# Altium integrated library Analog_Devices_Power_Management_Linear_Regulators.IntLib: 441 symbols (part 6 of 23)
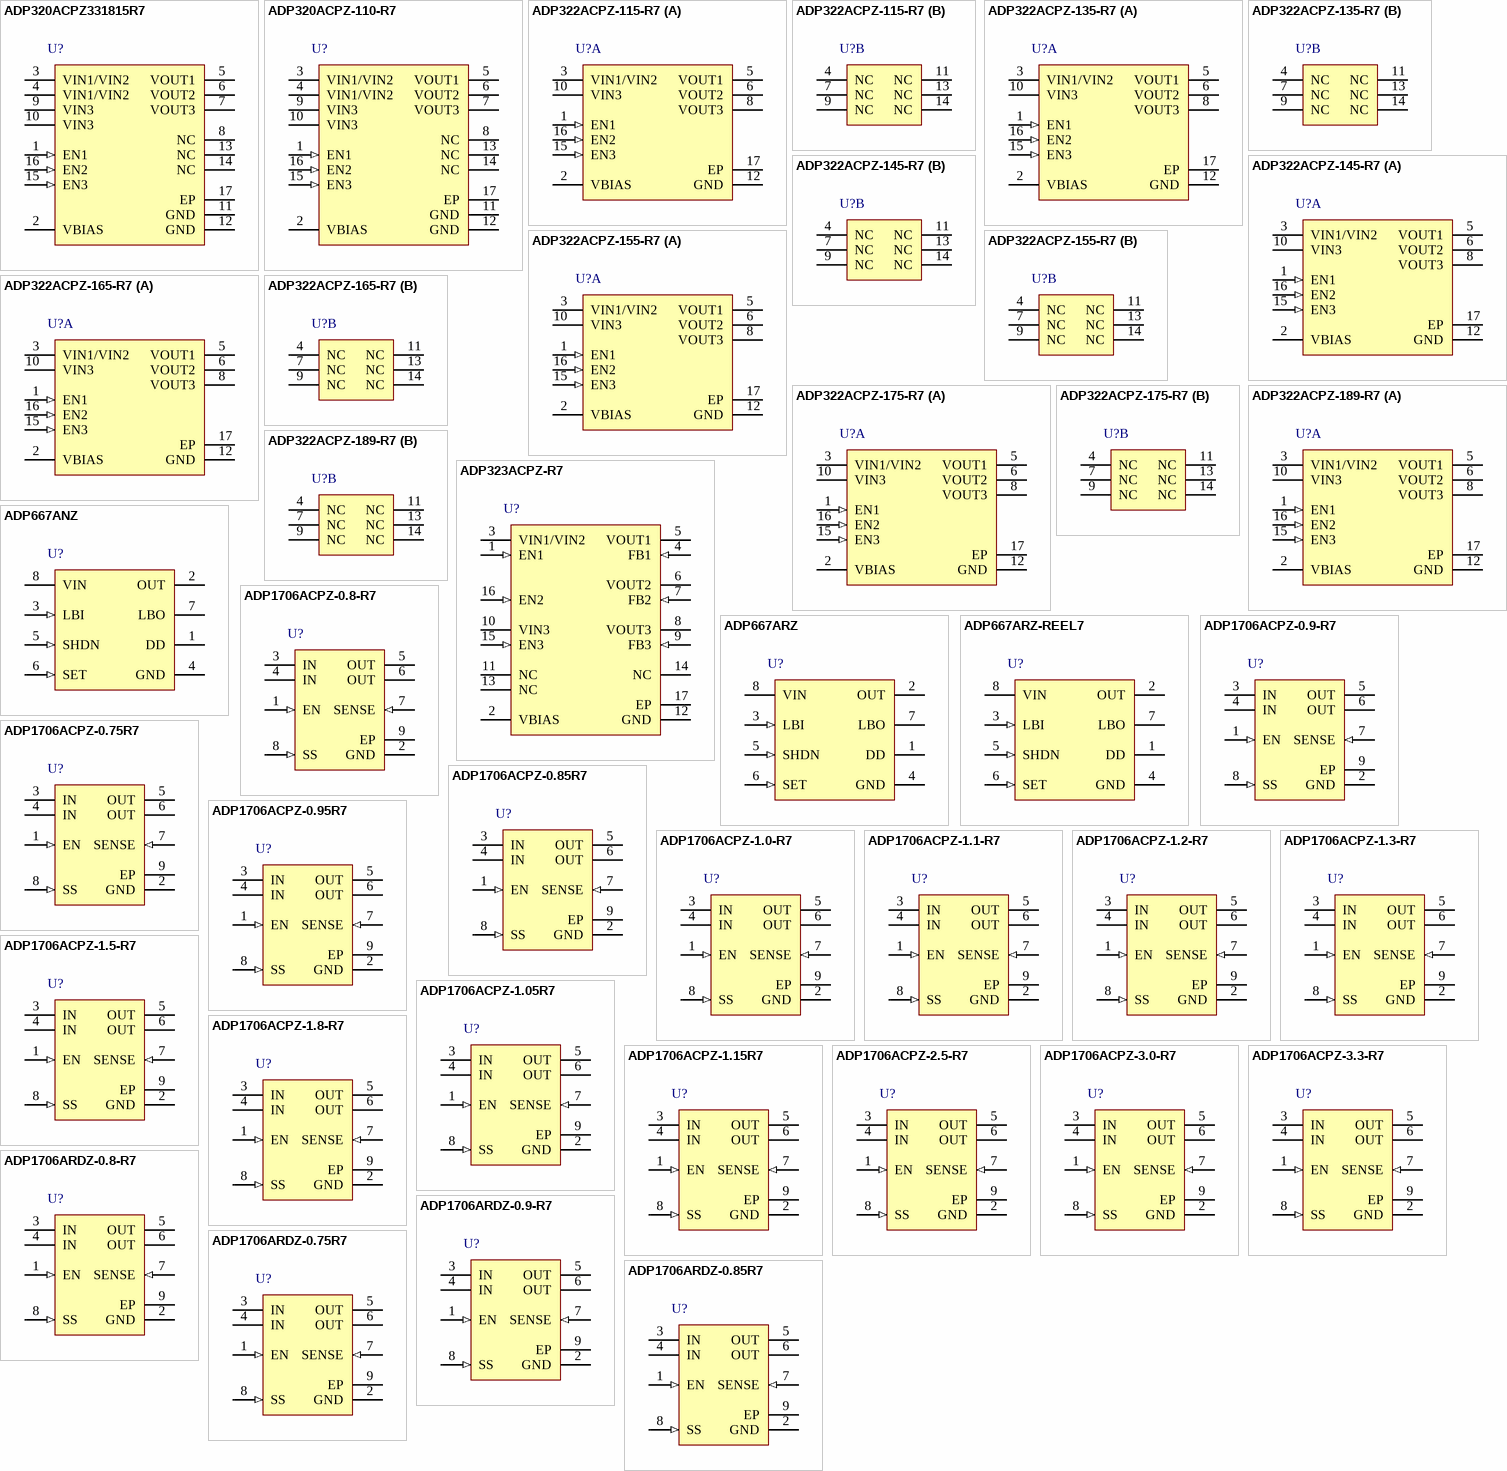
[diagram p16: symbols ADP320ACPZ331815R7 to ADP1706ARDZ-0.85R7]

## ADP1706ACPZ-2.5-R7
designator U?
1 A, Low Dropout, CMOS Linear Regulator, 2.5 to 5.5 V Vin, 2.5 V Vout, Industrial, 8-pin QFN (CP-8-2), Reel; Manufacturer: Analog Devices; PartNumber: ADP1706ACPZ-2.5-R7; Iout max: 1A; Preset Vout Values (V): 2.5; Supply Current IGND @ Small Load: 50uA; Vin (max) (V): 5.5; DatasheetVersion: Rev. 0; PackageVersion: 061507-B, 06/2007; PackageReference: CP-8-2; PackageDescription: 8-Pin Lead Frame Chip Scale Package, Body 3 x 3 mm, Pitch 0.5 mm; Supplier 1: Digi-Key; Supplier Part Number 1: ADP1706ACPZ-2.5-R7TR-ND; Supplier 2: Digi-Key; Supplier Part Number 2: ADP1706ACPZ-2.5-R7CT-ND; Supplier 3: Digi-Key; Supplier Part Number 3: ADP1706ACPZ-2.5-R7DKR-ND; Supplier 4: Mouser; Supplier Part Number 4: 584-ADP1706ACPZ2.5R7; Packing: Reel; Vin (min) (V): 2.5; Mounting Technology: Surface Mount; ComponentLink1Description: Manufacturer URL; ComponentLink1URL: http://www.analog.com/en/index.html; ComponentLink2Description: Datasheet; ComponentLink2URL: http://www.analog.com/static/imported-files/data_sheets/ADP1706_1707_1708.pdf; ComponentLink3Description: Package Specification; ComponentLink3URL: http://www.analog.com/static/imported-files/packages/56953322593982CP_8_2.pdf; ComponentLink4Description: URL Link1; ComponentLink4URL: Product URL:http://www.analog.com/en/ADP1706/productSearch.html
footprint ADI-CP-8-2_N (QFN, 8-Leads, Body 3x3mm, Pitch 0.5mm, Thermal Pad 1.45X1.74mm, IPC Medium Density)
footprint ADI-CP-8-2_L (QFN, 8-Leads, Body 3x3mm, Pitch 0.5mm, Thermal Pad 1.45X1.74mm, IPC High Density)
footprint ADI-CP-8-2_M (QFN, 8-Leads, Body 3x3mm, Pitch 0.5mm, Thermal Pad 1.45X1.74mm, IPC Low Density)
pins: 1 EN (in) "Enable Input. Drive EN high to turn on the regulator; drive it low to turn off the regulator. For automatic startup, connect EN to IN.", 2 GND (power) "Ground.", 3 IN (power) "Regulator Input Supply. Bypass IN to GND with a 4.7 uF or greater capacitor.", 4 IN (power) "Regulator Input Supply. Bypass IN to GND with a 4.7 uF or greater capacitor.", 5 OUT (power) "Regulated Output Voltage. Bypass OUT to GND with a 4.7 uF or greater capacitor.", 6 OUT (power) "Regulated Output Voltage. Bypass OUT to GND with a 4.7 uF or greater capacitor.", 7 SENSE (in) "Sense. Measures the actual output voltage at the load and feeds it to the error amplifier. Connect SENSE as close as possible to the load to minimize the effect of IR drop between the regulator output and the load.", 8 SS (in) "Soft Start. A capacitor connected to this pin determines the soft start time.", 9 EP (power) "The exposed pad on the bottom of the SOIC package and the LFCSP package. EP enhances thermal performance and is electrically connected to GND inside the package. User is recommended to connect EP to the ground plane on the (See Datasheet)"

## ADP1706ACPZ-3.0-R7
designator U?
1 A, Low Dropout, CMOS Linear Regulator, 2.5 to 5.5 V Vin, 3 V Vout, Industrial, 8-pin QFN (CP-8-2), Reel; Manufacturer: Analog Devices; PartNumber: ADP1706ACPZ-3.0-R7; Iout max: 1A; Preset Vout Values (V): 3.0; Supply Current IGND @ Small Load: 50uA; Vin (max) (V): 5.5; Vin (min) (V): 2.5; DatasheetVersion: Rev. 0; PackageVersion: 061507-B, 06/2007; PackageReference: CP-8-2; PackageDescription: 8-Pin Lead Frame Chip Scale Package, Body 3 x 3 mm, Pitch 0.5 mm; Supplier 1: Digi-Key; Supplier Part Number 1: ADP1706ACPZ-3.0-R7TR-ND; Supplier 2: Digi-Key; Supplier Part Number 2: ADP1706ACPZ-3.0-R7CT-ND; Supplier 3: Digi-Key; Supplier Part Number 3: ADP1706ACPZ-3.0-R7DKR-ND; Supplier 4: Mouser; Supplier Part Number 4: 584-ADP1706ACPZ3.0R7; Packing: Reel; Mounting Technology: Surface Mount; ComponentLink1Description: Manufacturer URL; ComponentLink1URL: http://www.analog.com/en/index.html; ComponentLink2Description: Datasheet; ComponentLink2URL: http://www.analog.com/static/imported-files/data_sheets/ADP1706_1707_1708.pdf; ComponentLink3Description: Package Specification; ComponentLink3URL: http://www.analog.com/static/imported-files/packages/56953322593982CP_8_2.pdf; ComponentLink4Description: URL Link1; ComponentLink4URL: Product URL:http://www.analog.com/en/ADP1706/productSearch.html
footprint ADI-CP-8-2_N (QFN, 8-Leads, Body 3x3mm, Pitch 0.5mm, Thermal Pad 1.45X1.74mm, IPC Medium Density)
footprint ADI-CP-8-2_L (QFN, 8-Leads, Body 3x3mm, Pitch 0.5mm, Thermal Pad 1.45X1.74mm, IPC High Density)
footprint ADI-CP-8-2_M (QFN, 8-Leads, Body 3x3mm, Pitch 0.5mm, Thermal Pad 1.45X1.74mm, IPC Low Density)
pins: 1 EN (in) "Enable Input. Drive EN high to turn on the regulator; drive it low to turn off the regulator. For automatic startup, connect EN to IN.", 2 GND (power) "Ground.", 3 IN (power) "Regulator Input Supply. Bypass IN to GND with a 4.7 uF or greater capacitor.", 4 IN (power) "Regulator Input Supply. Bypass IN to GND with a 4.7 uF or greater capacitor.", 5 OUT (power) "Regulated Output Voltage. Bypass OUT to GND with a 4.7 uF or greater capacitor.", 6 OUT (power) "Regulated Output Voltage. Bypass OUT to GND with a 4.7 uF or greater capacitor.", 7 SENSE (in) "Sense. Measures the actual output voltage at the load and feeds it to the error amplifier. Connect SENSE as close as possible to the load to minimize the effect of IR drop between the regulator output and the load.", 8 SS (in) "Soft Start. A capacitor connected to this pin determines the soft start time.", 9 EP (power) "The exposed pad on the bottom of the SOIC package and the LFCSP package. EP enhances thermal performance and is electrically connected to GND inside the package. User is recommended to connect EP to the ground plane on the (See Datasheet)"

## ADP1706ACPZ-3.3-R7
designator U?
1 A, Low Dropout, CMOS Linear Regulator, 2.5 to 5.5 V Vin, 3.3 V Vout, Industrial, 8-pin QFN (CP-8-2), Reel; Manufacturer: Analog Devices; PartNumber: ADP1706ACPZ-3.3-R7; Iout max: 1A; Preset Vout Values (V): 3.3; Supply Current IGND @ Small Load: 50uA; Vin (max) (V): 5.5; Vin (min) (V): 2.5; DatasheetVersion: Rev. 0; PackageVersion: 061507-B, 06/2007; PackageReference: CP-8-2; PackageDescription: 8-Pin Lead Frame Chip Scale Package, Body 3 x 3 mm, Pitch 0.5 mm; Supplier 1: Digi-Key; Supplier Part Number 1: ADP1706ACPZ-3.3-R7TR-ND; Supplier 2: Digi-Key; Supplier Part Number 2: ADP1706ACPZ-3.3-R7CT-ND; Supplier 3: Digi-Key; Supplier Part Number 3: ADP1706ACPZ-3.3-R7DKR-ND; Supplier 4: Newark; Supplier Part Number 4: 52M2852; Supplier 5: Mouser; Supplier Part Number 5: 584-ADP1706ACPZ3.3R7; Packing: Reel; Mounting Technology: Surface Mount; ComponentLink1Description: Manufacturer URL; ComponentLink1URL: http://www.analog.com/en/index.html; ComponentLink2Description: Datasheet; ComponentLink2URL: http://www.analog.com/static/imported-files/data_sheets/ADP1706_1707_1708.pdf; ComponentLink3Description: Package Specification; ComponentLink3URL: http://www.analog.com/static/imported-files/packages/56953322593982CP_8_2.pdf; ComponentLink4Description: URL Link1; ComponentLink4URL: Product URL:http://www.analog.com/en/ADP1706/productSearch.html
footprint ADI-CP-8-2_N (QFN, 8-Leads, Body 3x3mm, Pitch 0.5mm, Thermal Pad 1.45X1.74mm, IPC Medium Density)
footprint ADI-CP-8-2_L (QFN, 8-Leads, Body 3x3mm, Pitch 0.5mm, Thermal Pad 1.45X1.74mm, IPC High Density)
footprint ADI-CP-8-2_M (QFN, 8-Leads, Body 3x3mm, Pitch 0.5mm, Thermal Pad 1.45X1.74mm, IPC Low Density)
pins: 1 EN (in) "Enable Input. Drive EN high to turn on the regulator; drive it low to turn off the regulator. For automatic startup, connect EN to IN.", 2 GND (power) "Ground.", 3 IN (power) "Regulator Input Supply. Bypass IN to GND with a 4.7 uF or greater capacitor.", 4 IN (power) "Regulator Input Supply. Bypass IN to GND with a 4.7 uF or greater capacitor.", 5 OUT (power) "Regulated Output Voltage. Bypass OUT to GND with a 4.7 uF or greater capacitor.", 6 OUT (power) "Regulated Output Voltage. Bypass OUT to GND with a 4.7 uF or greater capacitor.", 7 SENSE (in) "Sense. Measures the actual output voltage at the load and feeds it to the error amplifier. Connect SENSE as close as possible to the load to minimize the effect of IR drop between the regulator output and the load.", 8 SS (in) "Soft Start. A capacitor connected to this pin determines the soft start time.", 9 EP (power) "The exposed pad on the bottom of the SOIC package and the LFCSP package. EP enhances thermal performance and is electrically connected to GND inside the package. User is recommended to connect EP to the ground plane on the (See Datasheet)"

## ADP1706ARDZ-0.8-R7
designator U?
1 A, Low Dropout, CMOS Linear Regulator, 2.5 to 5.5 V Vin, 0.8 V Vout, Industrial, 8-pin SOIC (RD-8-2), Reel; Manufacturer: Analog Devices; PartNumber: ADP1706ARDZ-0.8-R7; Iout max: 1A; Preset Vout Values (V): 0.8; Supply Current IGND @ Small Load: 50uA; Vin (max) (V): 5.5; Vin (min) (V): 2.5; DatasheetVersion: Rev. 0; PackageVersion: Jan-05; PackageReference: RD-8-2; PackageDescription: 8-Pin Standard Small Outline Package, Body 4.9 x 3.9 mm, Pitch 1.27 mm; Supplier 1: Digi-Key; Supplier Part Number 1: ADP1706ARDZ-0.8-R7TR-ND; Supplier 2: Digi-Key; Supplier Part Number 2: ADP1706ARDZ-0.8-R7CT-ND; Supplier 3: Digi-Key; Supplier Part Number 3: ADP1706ARDZ-0.8-R7DKR-ND; Supplier 4: Mouser; Supplier Part Number 4: 584-ADP1706ARDZ0.8R7; Packing: Reel; Mounting Technology: Surface Mount; Code_JEDEC: MS-012-AA; ComponentLink1Description: Manufacturer URL; ComponentLink1URL: http://www.analog.com/en/index.html; ComponentLink2Description: Datasheet; ComponentLink2URL: http://www.analog.com/static/imported-files/data_sheets/ADP1706_1707_1708.pdf; ComponentLink3Description: Package Specification; ComponentLink3URL: http://www.analog.com/static/imported-files/packages/62062404671038RD_8_2.pdf; ComponentLink4Description: URL Link1; ComponentLink4URL: Product URL:http://www.analog.com/en/ADP1706/productSearch.html
footprint ADI-RD-8-2_N (SOIC, 8-Leads, Body 4.9x3.9mm, Pitch 1.27mm, Thermal Pad 3.098x2.41mm, IPC Medium Density)
footprint ADI-RD-8-2_L (SOIC, 8-Leads, Body 4.9x3.9mm, Pitch 1.27mm, Thermal Pad 3.098x2.41mm, IPC High Density)
footprint ADI-RD-8-2_M (SOIC, 8-Leads, Body 4.9x3.9mm, Pitch 1.27mm, Thermal Pad 3.098x2.41mm, IPC Low Density)
pins: 1 EN (in) "Enable Input. Drive EN high to turn on the regulator; drive it low to turn off the regulator. For automatic startup, connect EN to IN.", 2 GND (power) "Ground.", 3 IN (power) "Regulator Input Supply. Bypass IN to GND with a 4.7 uF or greater capacitor", 4 IN (power) "Regulator Input Supply. Bypass IN to GND with a 4.7 uF or greater capacitor", 5 OUT (power) "Regulated Output Voltage. Bypass OUT to GND with a 4.7 uF or greater capacitor.", 6 OUT (power) "Regulated Output Voltage. Bypass OUT to GND with a 4.7 uF or greater capacitor.", 7 SENSE (in) "Sense. Measures the actual output voltage at the load and feeds it to the error amplifier. Connect SENSE as close as possible to the load to minimize the effect of IR drop between the regulator output and the load.", 8 SS (in) "Soft Start. A capacitor connected to this pin determines the soft start time.", 9 EP (power) "The exposed pad on the bottom of the SOIC package and the LFCSP package. EP enhances thermal performance and is electrically connected to GND inside the package. User is recommended to connect EP to the ground plane on the (See Datasheet)"

## ADP1706ARDZ-0.9-R7
designator U?
1 A, Low Dropout, CMOS Linear Regulator, 2.5 to 5.5 V Vin, 0.9 V Vout, Industrial, 8-pin SOIC (RD-8-2), Reel; Manufacturer: Analog Devices; PartNumber: ADP1706ARDZ-0.9-R7; Iout max: 1A; Preset Vout Values (V): 0.9; Supply Current IGND @ Small Load: 50uA; Vin (max) (V): 5.5; Vin (min) (V): 2.5; DatasheetVersion: Rev. 0; PackageVersion: Jan-05; PackageReference: RD-8-2; PackageDescription: 8-Pin Standard Small Outline Package, Body 4.9 x 3.9 mm, Pitch 1.27 mm; Supplier 1: Digi-Key; Supplier Part Number 1: ADP1706ARDZ-0.9-R7TR-ND; Supplier 2: Digi-Key; Supplier Part Number 2: ADP1706ARDZ-0.9-R7CT-ND; Supplier 3: Digi-Key; Supplier Part Number 3: ADP1706ARDZ-0.9-R7DKR-ND; Supplier 4: Mouser; Supplier Part Number 4: 584-ADP1706ARDZ0.9R7; Packing: Reel; Mounting Technology: Surface Mount; Code_JEDEC: MS-012-AA; ComponentLink1Description: Manufacturer URL; ComponentLink1URL: http://www.analog.com/en/index.html; ComponentLink2Description: Datasheet; ComponentLink2URL: http://www.analog.com/static/imported-files/data_sheets/ADP1706_1707_1708.pdf; ComponentLink3Description: Package Specification; ComponentLink3URL: http://www.analog.com/static/imported-files/packages/62062404671038RD_8_2.pdf; ComponentLink4Description: URL Link1; ComponentLink4URL: Product URL:http://www.analog.com/en/ADP1706/productSearch.html
footprint ADI-RD-8-2_N (SOIC, 8-Leads, Body 4.9x3.9mm, Pitch 1.27mm, Thermal Pad 3.098x2.41mm, IPC Medium Density)
footprint ADI-RD-8-2_L (SOIC, 8-Leads, Body 4.9x3.9mm, Pitch 1.27mm, Thermal Pad 3.098x2.41mm, IPC High Density)
footprint ADI-RD-8-2_M (SOIC, 8-Leads, Body 4.9x3.9mm, Pitch 1.27mm, Thermal Pad 3.098x2.41mm, IPC Low Density)
pins: 1 EN (in) "Enable Input. Drive EN high to turn on the regulator; drive it low to turn off the regulator. For automatic startup, connect EN to IN.", 2 GND (power) "Ground.", 3 IN (power) "Regulator Input Supply. Bypass IN to GND with a 4.7 uF or greater capacitor", 4 IN (power) "Regulator Input Supply. Bypass IN to GND with a 4.7 uF or greater capacitor", 5 OUT (power) "Regulated Output Voltage. Bypass OUT to GND with a 4.7 uF or greater capacitor.", 6 OUT (power) "Regulated Output Voltage. Bypass OUT to GND with a 4.7 uF or greater capacitor.", 7 SENSE (in) "Sense. Measures the actual output voltage at the load and feeds it to the error amplifier. Connect SENSE as close as possible to the load to minimize the effect of IR drop between the regulator output and the load.", 8 SS (in) "Soft Start. A capacitor connected to this pin determines the soft start time.", 9 EP (power) "The exposed pad on the bottom of the SOIC package and the LFCSP package. EP enhances thermal performance and is electrically connected to GND inside the package. User is recommended to connect EP to the ground plane on the (See Datasheet)"

## ADP1706ARDZ-0.75R7
designator U?
1 A, Low Dropout, CMOS Linear Regulator, 2.5 to 5.5 V Vin, 0.75 V Vout, Industrial, 8-pin SOIC (RD-8-2), Reel; Manufacturer: Analog Devices; PartNumber: ADP1706ARDZ-0.75R7; Iout max: 1A; Preset Vout Values (V): 0.75; Supply Current IGND @ Small Load: 50uA; Vin (max) (V): 5.5; Vin (min) (V): 2.5; DatasheetVersion: Rev. 0; PackageVersion: Jan-05; PackageReference: RD-8-2; PackageDescription: 8-Pin Standard Small Outline Package, Body 4.9 x 3.9 mm, Pitch 1.27 mm; Supplier 1: Digi-Key; Supplier Part Number 1: ADP1706ARDZ-0.75R7TR-ND; Supplier 2: Digi-Key; Supplier Part Number 2: ADP1706ARDZ-0.75R7CT-ND; Supplier 3: Digi-Key; Supplier Part Number 3: ADP1706ARDZ-0.75R7DKR-ND; Supplier 4: Mouser; Supplier Part Number 4: 584-AP1706ARDZ0.75R7; Packing: Reel; Mounting Technology: Surface Mount; Code_JEDEC: MS-012-AA; ComponentLink1Description: Manufacturer URL; ComponentLink1URL: http://www.analog.com/en/index.html; ComponentLink2Description: Datasheet; ComponentLink2URL: http://www.analog.com/static/imported-files/data_sheets/ADP1706_1707_1708.pdf; ComponentLink3Description: Package Specification; ComponentLink3URL: http://www.analog.com/static/imported-files/packages/62062404671038RD_8_2.pdf; ComponentLink4Description: URL Link1; ComponentLink4URL: Product URL:http://www.analog.com/en/ADP1706/productSearch.html
footprint ADI-RD-8-2_N (SOIC, 8-Leads, Body 4.9x3.9mm, Pitch 1.27mm, Thermal Pad 3.098x2.41mm, IPC Medium Density)
footprint ADI-RD-8-2_L (SOIC, 8-Leads, Body 4.9x3.9mm, Pitch 1.27mm, Thermal Pad 3.098x2.41mm, IPC High Density)
footprint ADI-RD-8-2_M (SOIC, 8-Leads, Body 4.9x3.9mm, Pitch 1.27mm, Thermal Pad 3.098x2.41mm, IPC Low Density)
pins: 1 EN (in) "Enable Input. Drive EN high to turn on the regulator; drive it low to turn off the regulator. For automatic startup, connect EN to IN.", 2 GND (power) "Ground.", 3 IN (power) "Regulator Input Supply. Bypass IN to GND with a 4.7 uF or greater capacitor", 4 IN (power) "Regulator Input Supply. Bypass IN to GND with a 4.7 uF or greater capacitor", 5 OUT (power) "Regulated Output Voltage. Bypass OUT to GND with a 4.7 uF or greater capacitor.", 6 OUT (power) "Regulated Output Voltage. Bypass OUT to GND with a 4.7 uF or greater capacitor.", 7 SENSE (in) "Sense. Measures the actual output voltage at the load and feeds it to the error amplifier. Connect SENSE as close as possible to the load to minimize the effect of IR drop between the regulator output and the load.", 8 SS (in) "Soft Start. A capacitor connected to this pin determines the soft start time.", 9 EP (power) "The exposed pad on the bottom of the SOIC package and the LFCSP package. EP enhances thermal performance and is electrically connected to GND inside the package. User is recommended to connect EP to the ground plane on the (See Datasheet)"

## ADP1706ARDZ-0.85R7
designator U?
1 A, Low Dropout, CMOS Linear Regulator, 2.5 to 5.5 V Vin, 0.85 V Vout, Industrial, 8-pin SOIC (RD-8-2), Reel; Manufacturer: Analog Devices; PartNumber: ADP1706ARDZ-0.85R7; DatasheetVersion: Rev. 0; PackageVersion: Jan-05; PackageReference: RD-8-2; PackageDescription: 8-Pin Standard Small Outline Package, Body 4.9 x 3.9 mm, Pitch 1.27 mm; Supplier 1: Digi-Key; Supplier Part Number 1: ADP1706ARDZ-0.85R7TR-ND; Supplier 2: Digi-Key; Supplier Part Number 2: ADP1706ARDZ-0.85R7CT-ND; Supplier 3: Digi-Key; Supplier Part Number 3: ADP1706ARDZ-0.85R7DKR-ND; Supplier 4: Mouser; Supplier Part Number 4: 584-AP1706ARDZ0.85R7; Packing: Reel; Mounting Technology: Surface Mount; Code_JEDEC: MS-012-AA; ComponentLink1Description: Manufacturer URL; ComponentLink1URL: http://www.analog.com/en/index.html; ComponentLink2Description: Datasheet; ComponentLink2URL: http://www.analog.com/static/imported-files/data_sheets/ADP1706_1707_1708.pdf; ComponentLink3Description: Package Specification; ComponentLink3URL: http://www.analog.com/static/imported-files/packages/62062404671038RD_8_2.pdf; ComponentLink4Description: URL Link1; ComponentLink4URL: Product URL:http://www.analog.com/en/ADP1706/productSearch.html
footprint ADI-RD-8-2_N (SOIC, 8-Leads, Body 4.9x3.9mm, Pitch 1.27mm, Thermal Pad 3.098x2.41mm, IPC Medium Density)
footprint ADI-RD-8-2_L (SOIC, 8-Leads, Body 4.9x3.9mm, Pitch 1.27mm, Thermal Pad 3.098x2.41mm, IPC High Density)
footprint ADI-RD-8-2_M (SOIC, 8-Leads, Body 4.9x3.9mm, Pitch 1.27mm, Thermal Pad 3.098x2.41mm, IPC Low Density)
pins: 1 EN (in) "Enable Input. Drive EN high to turn on the regulator; drive it low to turn off the regulator. For automatic startup, connect EN to IN.", 2 GND (power) "Ground.", 3 IN (power) "Regulator Input Supply. Bypass IN to GND with a 4.7 uF or greater capacitor", 4 IN (power) "Regulator Input Supply. Bypass IN to GND with a 4.7 uF or greater capacitor", 5 OUT (power) "Regulated Output Voltage. Bypass OUT to GND with a 4.7 uF or greater capacitor.", 6 OUT (power) "Regulated Output Voltage. Bypass OUT to GND with a 4.7 uF or greater capacitor.", 7 SENSE (in) "Sense. Measures the actual output voltage at the load and feeds it to the error amplifier. Connect SENSE as close as possible to the load to minimize the effect of IR drop between the regulator output and the load.", 8 SS (in) "Soft Start. A capacitor connected to this pin determines the soft start time.", 9 EP (power) "The exposed pad on the bottom of the SOIC package and the LFCSP package. EP enhances thermal performance and is electrically connected to GND inside the package. User is recommended to connect EP to the ground plane on the (See Datasheet)"

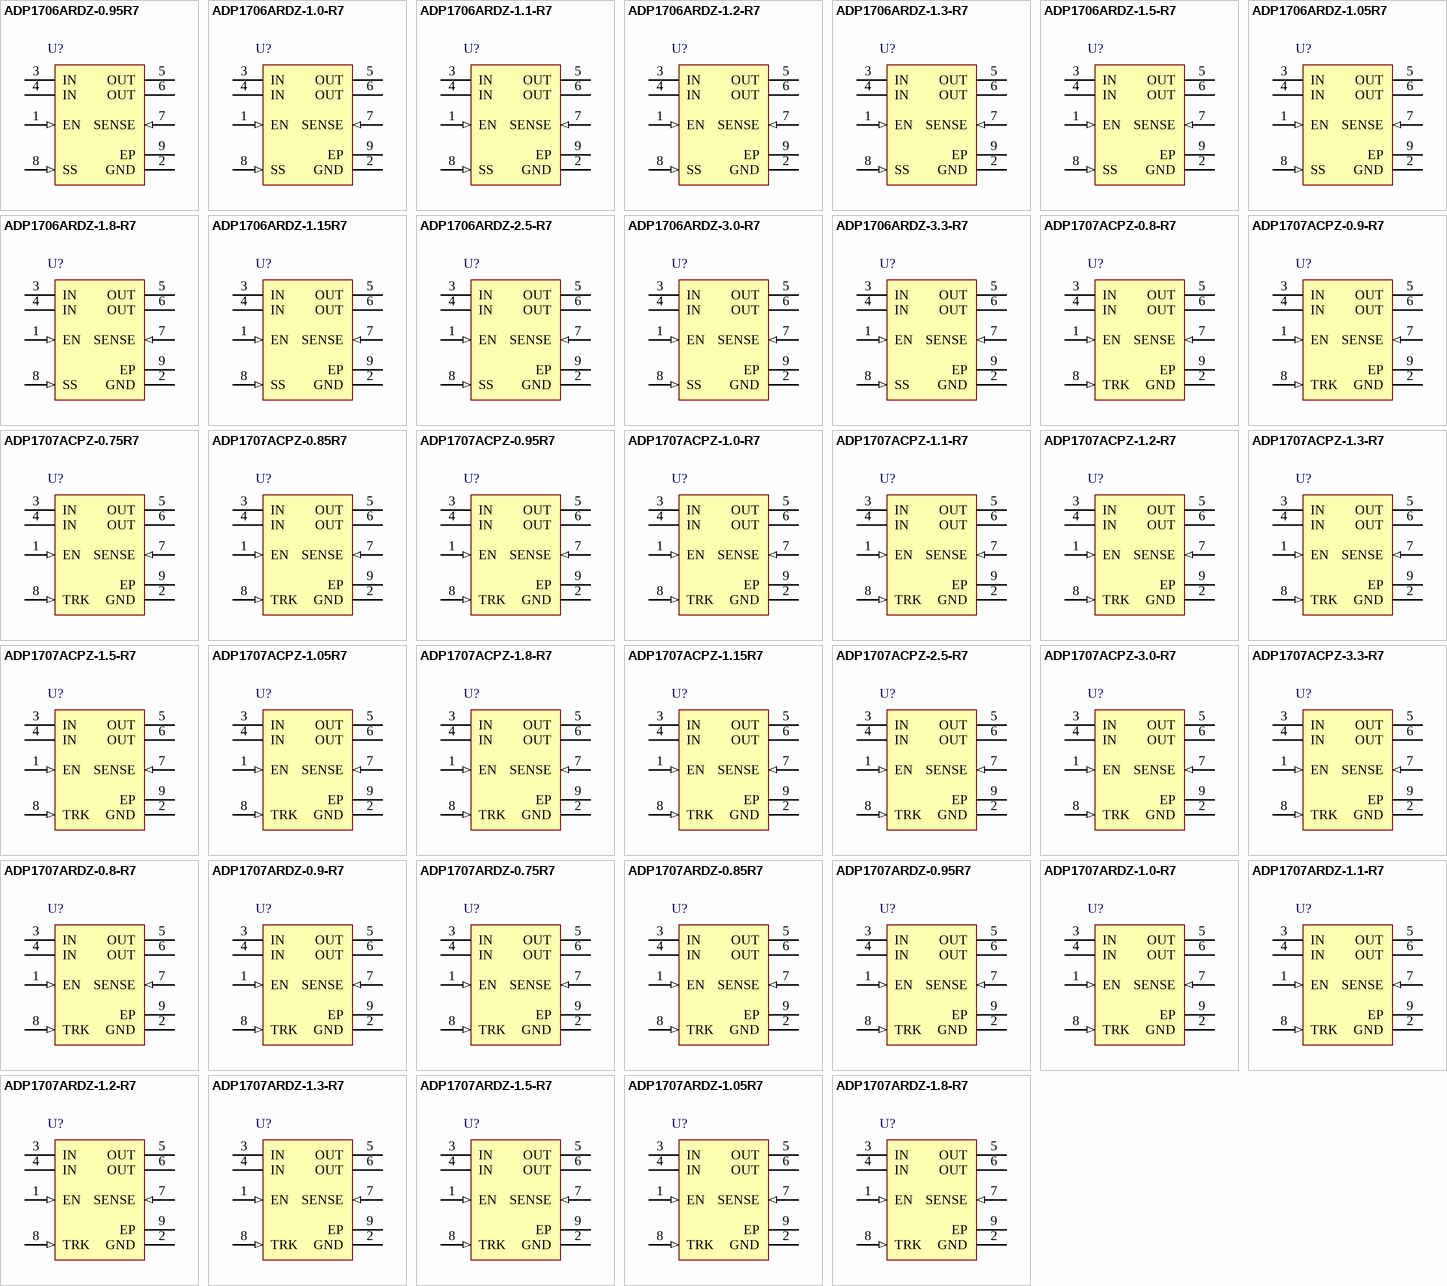
[diagram p3: symbols ADP1706ARDZ-0.95R7 to ADP1707ARDZ-1.8-R7]

## ADP1706ARDZ-0.95R7
designator U?
1 A, Low Dropout, CMOS Linear Regulator, 2.5 to 5.5 V Vin, 0.95 V Vout, Industrial, 8-pin SOIC (RD-8-2), Reel; Manufacturer: Analog Devices; PartNumber: ADP1706ARDZ-0.95R7; DatasheetVersion: Rev. 0; PackageVersion: Jan-05; PackageReference: RD-8-2; PackageDescription: 8-Pin Standard Small Outline Package, Body 4.9 x 3.9 mm, Pitch 1.27 mm; Supplier 1: Digi-Key; Supplier Part Number 1: ADP1706ARDZ-0.95R7TR-ND; Supplier 2: Digi-Key; Supplier Part Number 2: ADP1706ARDZ-0.95R7CT-ND; Supplier 3: Digi-Key; Supplier Part Number 3: ADP1706ARDZ-0.95R7DKR-ND; Supplier 4: Mouser; Supplier Part Number 4: 584-AP1706ARDZ0.95R7; Packing: Reel; Mounting Technology: Surface Mount; Code_JEDEC: MS-012-AA; ComponentLink1Description: Manufacturer URL; ComponentLink1URL: http://www.analog.com/en/index.html; ComponentLink2Description: Datasheet; ComponentLink2URL: http://www.analog.com/static/imported-files/data_sheets/ADP1706_1707_1708.pdf; ComponentLink3Description: Package Specification; ComponentLink3URL: http://www.analog.com/static/imported-files/packages/62062404671038RD_8_2.pdf; ComponentLink4Description: URL Link1; ComponentLink4URL: Product URL:http://www.analog.com/en/ADP1706/productSearch.html
footprint ADI-RD-8-2_N (SOIC, 8-Leads, Body 4.9x3.9mm, Pitch 1.27mm, Thermal Pad 3.098x2.41mm, IPC Medium Density)
footprint ADI-RD-8-2_L (SOIC, 8-Leads, Body 4.9x3.9mm, Pitch 1.27mm, Thermal Pad 3.098x2.41mm, IPC High Density)
footprint ADI-RD-8-2_M (SOIC, 8-Leads, Body 4.9x3.9mm, Pitch 1.27mm, Thermal Pad 3.098x2.41mm, IPC Low Density)
pins: 1 EN (in) "Enable Input. Drive EN high to turn on the regulator; drive it low to turn off the regulator. For automatic startup, connect EN to IN.", 2 GND (power) "Ground.", 3 IN (power) "Regulator Input Supply. Bypass IN to GND with a 4.7 uF or greater capacitor", 4 IN (power) "Regulator Input Supply. Bypass IN to GND with a 4.7 uF or greater capacitor", 5 OUT (power) "Regulated Output Voltage. Bypass OUT to GND with a 4.7 uF or greater capacitor.", 6 OUT (power) "Regulated Output Voltage. Bypass OUT to GND with a 4.7 uF or greater capacitor.", 7 SENSE (in) "Sense. Measures the actual output voltage at the load and feeds it to the error amplifier. Connect SENSE as close as possible to the load to minimize the effect of IR drop between the regulator output and the load.", 8 SS (in) "Soft Start. A capacitor connected to this pin determines the soft start time.", 9 EP (power) "The exposed pad on the bottom of the SOIC package and the LFCSP package. EP enhances thermal performance and is electrically connected to GND inside the package. User is recommended to connect EP to the ground plane on the (See Datasheet)"

## ADP1706ARDZ-1.0-R7
designator U?
1 A, Low Dropout, CMOS Linear Regulator, 2.5 to 5.5 V Vin, 1 V Vout, Industrial, 8-pin SOIC (RD-8-2), Reel; Manufacturer: Analog Devices; PartNumber: ADP1706ARDZ-1.0-R7; DatasheetVersion: Rev. 0; PackageVersion: Jan-05; PackageReference: RD-8-2; PackageDescription: 8-Pin Standard Small Outline Package, Body 4.9 x 3.9 mm, Pitch 1.27 mm; Supplier 1: Digi-Key; Supplier Part Number 1: ADP1706ARDZ-1.0-R7TR-ND; Supplier 2: Digi-Key; Supplier Part Number 2: ADP1706ARDZ-1.0-R7CT-ND; Supplier 3: Digi-Key; Supplier Part Number 3: ADP1706ARDZ-1.0-R7DKR-ND; Supplier 4: Mouser; Supplier Part Number 4: 584-ADP1706ARDZ1.0R7; Packing: Reel; Mounting Technology: Surface Mount; Code_JEDEC: MS-012-AA; ComponentLink1Description: Manufacturer URL; ComponentLink1URL: http://www.analog.com/en/index.html; ComponentLink2Description: Datasheet; ComponentLink2URL: http://www.analog.com/static/imported-files/data_sheets/ADP1706_1707_1708.pdf; ComponentLink3Description: Package Specification; ComponentLink3URL: http://www.analog.com/static/imported-files/packages/62062404671038RD_8_2.pdf; ComponentLink4Description: URL Link1; ComponentLink4URL: Product URL:http://www.analog.com/en/ADP1706/productSearch.html
footprint ADI-RD-8-2_N (SOIC, 8-Leads, Body 4.9x3.9mm, Pitch 1.27mm, Thermal Pad 3.098x2.41mm, IPC Medium Density)
footprint ADI-RD-8-2_L (SOIC, 8-Leads, Body 4.9x3.9mm, Pitch 1.27mm, Thermal Pad 3.098x2.41mm, IPC High Density)
footprint ADI-RD-8-2_M (SOIC, 8-Leads, Body 4.9x3.9mm, Pitch 1.27mm, Thermal Pad 3.098x2.41mm, IPC Low Density)
pins: 1 EN (in) "Enable Input. Drive EN high to turn on the regulator; drive it low to turn off the regulator. For automatic startup, connect EN to IN.", 2 GND (power) "Ground.", 3 IN (power) "Regulator Input Supply. Bypass IN to GND with a 4.7 uF or greater capacitor", 4 IN (power) "Regulator Input Supply. Bypass IN to GND with a 4.7 uF or greater capacitor", 5 OUT (power) "Regulated Output Voltage. Bypass OUT to GND with a 4.7 uF or greater capacitor.", 6 OUT (power) "Regulated Output Voltage. Bypass OUT to GND with a 4.7 uF or greater capacitor.", 7 SENSE (in) "Sense. Measures the actual output voltage at the load and feeds it to the error amplifier. Connect SENSE as close as possible to the load to minimize the effect of IR drop between the regulator output and the load.", 8 SS (in) "Soft Start. A capacitor connected to this pin determines the soft start time.", 9 EP (power) "The exposed pad on the bottom of the SOIC package and the LFCSP package. EP enhances thermal performance and is electrically connected to GND inside the package. User is recommended to connect EP to the ground plane on the (See Datasheet)"

## ADP1706ARDZ-1.1-R7
designator U?
1 A, Low Dropout, CMOS Linear Regulator, 2.5 to 5.5 V Vin, 1.1 V Vout, Industrial, 8-pin SOIC (RD-8-2), Reel; Manufacturer: Analog Devices; PartNumber: ADP1706ARDZ-1.1-R7; DatasheetVersion: Rev. 0; PackageVersion: Jan-05; PackageReference: RD-8-2; PackageDescription: 8-Pin Standard Small Outline Package, Body 4.9 x 3.9 mm, Pitch 1.27 mm; Supplier 1: Digi-Key; Supplier Part Number 1: ADP1706ARDZ-1.1-R7TR-ND; Supplier 2: Digi-Key; Supplier Part Number 2: ADP1706ARDZ-1.1-R7CT-ND; Supplier 3: Digi-Key; Supplier Part Number 3: ADP1706ARDZ-1.1-R7DKR-ND; Supplier 4: Newark; Supplier Part Number 4: 71M1721; Supplier 5: Mouser; Supplier Part Number 5: 584-ADP1706ARDZ1.1R7; Packing: Reel; Mounting Technology: Surface Mount; Code_JEDEC: MS-012-AA; ComponentLink1Description: Manufacturer URL; ComponentLink1URL: http://www.analog.com/en/index.html; ComponentLink2Description: Datasheet; ComponentLink2URL: http://www.analog.com/static/imported-files/data_sheets/ADP1706_1707_1708.pdf; ComponentLink3Description: Package Specification; ComponentLink3URL: http://www.analog.com/static/imported-files/packages/62062404671038RD_8_2.pdf; ComponentLink4Description: URL Link1; ComponentLink4URL: Product URL:http://www.analog.com/en/ADP1706/productSearch.html
footprint ADI-RD-8-2_N (SOIC, 8-Leads, Body 4.9x3.9mm, Pitch 1.27mm, Thermal Pad 3.098x2.41mm, IPC Medium Density)
footprint ADI-RD-8-2_L (SOIC, 8-Leads, Body 4.9x3.9mm, Pitch 1.27mm, Thermal Pad 3.098x2.41mm, IPC High Density)
footprint ADI-RD-8-2_M (SOIC, 8-Leads, Body 4.9x3.9mm, Pitch 1.27mm, Thermal Pad 3.098x2.41mm, IPC Low Density)
pins: 1 EN (in) "Enable Input. Drive EN high to turn on the regulator; drive it low to turn off the regulator. For automatic startup, connect EN to IN.", 2 GND (power) "Ground.", 3 IN (power) "Regulator Input Supply. Bypass IN to GND with a 4.7 uF or greater capacitor", 4 IN (power) "Regulator Input Supply. Bypass IN to GND with a 4.7 uF or greater capacitor", 5 OUT (power) "Regulated Output Voltage. Bypass OUT to GND with a 4.7 uF or greater capacitor.", 6 OUT (power) "Regulated Output Voltage. Bypass OUT to GND with a 4.7 uF or greater capacitor.", 7 SENSE (in) "Sense. Measures the actual output voltage at the load and feeds it to the error amplifier. Connect SENSE as close as possible to the load to minimize the effect of IR drop between the regulator output and the load.", 8 SS (in) "Soft Start. A capacitor connected to this pin determines the soft start time.", 9 EP (power) "The exposed pad on the bottom of the SOIC package and the LFCSP package. EP enhances thermal performance and is electrically connected to GND inside the package. User is recommended to connect EP to the ground plane on the (See Datasheet)"

## ADP1706ARDZ-1.2-R7
designator U?
1 A, Low Dropout, CMOS Linear Regulator, 2.5 to 5.5 V Vin, 1.2 V Vout, Industrial, 8-pin SOIC (RD-8-2), Reel; Manufacturer: Analog Devices; PartNumber: ADP1706ARDZ-1.2-R7; DatasheetVersion: Rev. 0; PackageVersion: Jan-05; PackageReference: RD-8-2; PackageDescription: 8-Pin Standard Small Outline Package, Body 4.9 x 3.9 mm, Pitch 1.27 mm; Supplier 1: Digi-Key; Supplier Part Number 1: ADP1706ARDZ-1.2-R7TR-ND; Supplier 2: Digi-Key; Supplier Part Number 2: ADP1706ARDZ-1.2-R7CT-ND; Supplier 3: Digi-Key; Supplier Part Number 3: ADP1706ARDZ-1.2-R7DKR-ND; Supplier 4: Farnell; Supplier Part Number 4: 2312954; Supplier 5: Newark; Supplier Part Number 5: 67W3138; Supplier 6: Newark; Supplier Part Number 6: 71M1723; Supplier 7: Mouser; Supplier Part Number 7: 584-ADP1706ARDZ1.2R7; Packing: Reel; Mounting Technology: Surface Mount; Code_JEDEC: MS-012-AA; ComponentLink1Description: Manufacturer URL; ComponentLink1URL: http://www.analog.com/en/index.html; ComponentLink2Description: Datasheet; ComponentLink2URL: http://www.analog.com/static/imported-files/data_sheets/ADP1706_1707_1708.pdf; ComponentLink3Description: Package Specification; ComponentLink3URL: http://www.analog.com/static/imported-files/packages/62062404671038RD_8_2.pdf; ComponentLink4Description: URL Link1; ComponentLink4URL: Product URL:http://www.analog.com/en/ADP1706/productSearch.html
footprint ADI-RD-8-2_N (SOIC, 8-Leads, Body 4.9x3.9mm, Pitch 1.27mm, Thermal Pad 3.098x2.41mm, IPC Medium Density)
footprint ADI-RD-8-2_L (SOIC, 8-Leads, Body 4.9x3.9mm, Pitch 1.27mm, Thermal Pad 3.098x2.41mm, IPC High Density)
footprint ADI-RD-8-2_M (SOIC, 8-Leads, Body 4.9x3.9mm, Pitch 1.27mm, Thermal Pad 3.098x2.41mm, IPC Low Density)
pins: 1 EN (in) "Enable Input. Drive EN high to turn on the regulator; drive it low to turn off the regulator. For automatic startup, connect EN to IN.", 2 GND (power) "Ground.", 3 IN (power) "Regulator Input Supply. Bypass IN to GND with a 4.7 uF or greater capacitor", 4 IN (power) "Regulator Input Supply. Bypass IN to GND with a 4.7 uF or greater capacitor", 5 OUT (power) "Regulated Output Voltage. Bypass OUT to GND with a 4.7 uF or greater capacitor.", 6 OUT (power) "Regulated Output Voltage. Bypass OUT to GND with a 4.7 uF or greater capacitor.", 7 SENSE (in) "Sense. Measures the actual output voltage at the load and feeds it to the error amplifier. Connect SENSE as close as possible to the load to minimize the effect of IR drop between the regulator output and the load.", 8 SS (in) "Soft Start. A capacitor connected to this pin determines the soft start time.", 9 EP (power) "The exposed pad on the bottom of the SOIC package and the LFCSP package. EP enhances thermal performance and is electrically connected to GND inside the package. User is recommended to connect EP to the ground plane on the (See Datasheet)"

## ADP1706ARDZ-1.3-R7
designator U?
1 A, Low Dropout, CMOS Linear Regulator, 2.5 to 5.5 V Vin, 1.3 V Vout, Industrial, 8-pin SOIC (RD-8-2), Reel; Manufacturer: Analog Devices; PartNumber: ADP1706ARDZ-1.3-R7; DatasheetVersion: Rev. 0; PackageVersion: Jan-05; PackageReference: RD-8-2; PackageDescription: 8-Pin Standard Small Outline Package, Body 4.9 x 3.9 mm, Pitch 1.27 mm; Supplier 1: Digi-Key; Supplier Part Number 1: ADP1706ARDZ-1.3-R7TR-ND; Supplier 2: Digi-Key; Supplier Part Number 2: ADP1706ARDZ-1.3-R7CT-ND; Supplier 3: Digi-Key; Supplier Part Number 3: ADP1706ARDZ-1.3-R7DKR-ND; Supplier 4: Mouser; Supplier Part Number 4: 584-ADP1706ARDZ1.3R7; Packing: Reel; Mounting Technology: Surface Mount; Code_JEDEC: MS-012-AA; ComponentLink1Description: Manufacturer URL; ComponentLink1URL: http://www.analog.com/en/index.html; ComponentLink2Description: Datasheet; ComponentLink2URL: http://www.analog.com/static/imported-files/data_sheets/ADP1706_1707_1708.pdf; ComponentLink3Description: Package Specification; ComponentLink3URL: http://www.analog.com/static/imported-files/packages/62062404671038RD_8_2.pdf; ComponentLink4Description: URL Link1; ComponentLink4URL: Product URL:http://www.analog.com/en/ADP1706/productSearch.html
footprint ADI-RD-8-2_N (SOIC, 8-Leads, Body 4.9x3.9mm, Pitch 1.27mm, Thermal Pad 3.098x2.41mm, IPC Medium Density)
footprint ADI-RD-8-2_L (SOIC, 8-Leads, Body 4.9x3.9mm, Pitch 1.27mm, Thermal Pad 3.098x2.41mm, IPC High Density)
footprint ADI-RD-8-2_M (SOIC, 8-Leads, Body 4.9x3.9mm, Pitch 1.27mm, Thermal Pad 3.098x2.41mm, IPC Low Density)
pins: 1 EN (in) "Enable Input. Drive EN high to turn on the regulator; drive it low to turn off the regulator. For automatic startup, connect EN to IN.", 2 GND (power) "Ground.", 3 IN (power) "Regulator Input Supply. Bypass IN to GND with a 4.7 uF or greater capacitor", 4 IN (power) "Regulator Input Supply. Bypass IN to GND with a 4.7 uF or greater capacitor", 5 OUT (power) "Regulated Output Voltage. Bypass OUT to GND with a 4.7 uF or greater capacitor.", 6 OUT (power) "Regulated Output Voltage. Bypass OUT to GND with a 4.7 uF or greater capacitor.", 7 SENSE (in) "Sense. Measures the actual output voltage at the load and feeds it to the error amplifier. Connect SENSE as close as possible to the load to minimize the effect of IR drop between the regulator output and the load.", 8 SS (in) "Soft Start. A capacitor connected to this pin determines the soft start time.", 9 EP (power) "The exposed pad on the bottom of the SOIC package and the LFCSP package. EP enhances thermal performance and is electrically connected to GND inside the package. User is recommended to connect EP to the ground plane on the (See Datasheet)"

## ADP1706ARDZ-1.5-R7
designator U?
1 A, Low Dropout, CMOS Linear Regulator, 2.5 to 5.5 V Vin, 1.5 V Vout, Industrial, 8-pin SOIC (RD-8-2), Reel; Manufacturer: Analog Devices; PartNumber: ADP1706ARDZ-1.5-R7; DatasheetVersion: Rev. 0; PackageVersion: Jan-05; PackageReference: RD-8-2; PackageDescription: 8-Pin Standard Small Outline Package, Body 4.9 x 3.9 mm, Pitch 1.27 mm; Supplier 1: Digi-Key; Supplier Part Number 1: ADP1706ARDZ-1.5-R7TR-ND; Supplier 2: Digi-Key; Supplier Part Number 2: ADP1706ARDZ-1.5-R7CT-ND; Supplier 3: Digi-Key; Supplier Part Number 3: ADP1706ARDZ-1.5-R7DKR-ND; Supplier 4: Newark; Supplier Part Number 4: 71M1725; Supplier 5: Mouser; Supplier Part Number 5: 584-ADP1706ARDZ1.5R7; Packing: Reel; Mounting Technology: Surface Mount; Code_JEDEC: MS-012-AA; ComponentLink1Description: Manufacturer URL; ComponentLink1URL: http://www.analog.com/en/index.html; ComponentLink2Description: Datasheet; ComponentLink2URL: http://www.analog.com/static/imported-files/data_sheets/ADP1706_1707_1708.pdf; ComponentLink3Description: Package Specification; ComponentLink3URL: http://www.analog.com/static/imported-files/packages/62062404671038RD_8_2.pdf; ComponentLink4Description: URL Link1; ComponentLink4URL: Product URL:http://www.analog.com/en/ADP1706/productSearch.html
footprint ADI-RD-8-2_N (SOIC, 8-Leads, Body 4.9x3.9mm, Pitch 1.27mm, Thermal Pad 3.098x2.41mm, IPC Medium Density)
footprint ADI-RD-8-2_L (SOIC, 8-Leads, Body 4.9x3.9mm, Pitch 1.27mm, Thermal Pad 3.098x2.41mm, IPC High Density)
footprint ADI-RD-8-2_M (SOIC, 8-Leads, Body 4.9x3.9mm, Pitch 1.27mm, Thermal Pad 3.098x2.41mm, IPC Low Density)
pins: 1 EN (in) "Enable Input. Drive EN high to turn on the regulator; drive it low to turn off the regulator. For automatic startup, connect EN to IN.", 2 GND (power) "Ground.", 3 IN (power) "Regulator Input Supply. Bypass IN to GND with a 4.7 uF or greater capacitor", 4 IN (power) "Regulator Input Supply. Bypass IN to GND with a 4.7 uF or greater capacitor", 5 OUT (power) "Regulated Output Voltage. Bypass OUT to GND with a 4.7 uF or greater capacitor.", 6 OUT (power) "Regulated Output Voltage. Bypass OUT to GND with a 4.7 uF or greater capacitor.", 7 SENSE (in) "Sense. Measures the actual output voltage at the load and feeds it to the error amplifier. Connect SENSE as close as possible to the load to minimize the effect of IR drop between the regulator output and the load.", 8 SS (in) "Soft Start. A capacitor connected to this pin determines the soft start time.", 9 EP (power) "The exposed pad on the bottom of the SOIC package and the LFCSP package. EP enhances thermal performance and is electrically connected to GND inside the package. User is recommended to connect EP to the ground plane on the (See Datasheet)"

## ADP1706ARDZ-1.05R7
designator U?
1 A, Low Dropout, CMOS Linear Regulator, 2.5 to 5.5 V Vin, 1.05 V Vout, Industrial, 8-pin SOIC (RD-8-2), Reel; Manufacturer: Analog Devices; PartNumber: ADP1706ARDZ-1.05R7; DatasheetVersion: Rev. 0; PackageVersion: Jan-05; PackageReference: RD-8-2; PackageDescription: 8-Pin Standard Small Outline Package, Body 4.9 x 3.9 mm, Pitch 1.27 mm; Supplier 1: Digi-Key; Supplier Part Number 1: ADP1706ARDZ-1.05R7TR-ND; Supplier 2: Digi-Key; Supplier Part Number 2: ADP1706ARDZ-1.05R7CT-ND; Supplier 3: Digi-Key; Supplier Part Number 3: ADP1706ARDZ-1.05R7DKR-ND; Supplier 4: Mouser; Supplier Part Number 4: 584-AP1706ARDZ1.05R7; Packing: Reel; Mounting Technology: Surface Mount; Code_JEDEC: MS-012-AA; ComponentLink1Description: Manufacturer URL; ComponentLink1URL: http://www.analog.com/en/index.html; ComponentLink2Description: Datasheet; ComponentLink2URL: http://www.analog.com/static/imported-files/data_sheets/ADP1706_1707_1708.pdf; ComponentLink3Description: Package Specification; ComponentLink3URL: http://www.analog.com/static/imported-files/packages/62062404671038RD_8_2.pdf; ComponentLink4Description: URL Link1; ComponentLink4URL: Product URL:http://www.analog.com/en/ADP1706/productSearch.html
footprint ADI-RD-8-2_N (SOIC, 8-Leads, Body 4.9x3.9mm, Pitch 1.27mm, Thermal Pad 3.098x2.41mm, IPC Medium Density)
footprint ADI-RD-8-2_L (SOIC, 8-Leads, Body 4.9x3.9mm, Pitch 1.27mm, Thermal Pad 3.098x2.41mm, IPC High Density)
footprint ADI-RD-8-2_M (SOIC, 8-Leads, Body 4.9x3.9mm, Pitch 1.27mm, Thermal Pad 3.098x2.41mm, IPC Low Density)
pins: 1 EN (in) "Enable Input. Drive EN high to turn on the regulator; drive it low to turn off the regulator. For automatic startup, connect EN to IN.", 2 GND (power) "Ground.", 3 IN (power) "Regulator Input Supply. Bypass IN to GND with a 4.7 uF or greater capacitor", 4 IN (power) "Regulator Input Supply. Bypass IN to GND with a 4.7 uF or greater capacitor", 5 OUT (power) "Regulated Output Voltage. Bypass OUT to GND with a 4.7 uF or greater capacitor.", 6 OUT (power) "Regulated Output Voltage. Bypass OUT to GND with a 4.7 uF or greater capacitor.", 7 SENSE (in) "Sense. Measures the actual output voltage at the load and feeds it to the error amplifier. Connect SENSE as close as possible to the load to minimize the effect of IR drop between the regulator output and the load.", 8 SS (in) "Soft Start. A capacitor connected to this pin determines the soft start time.", 9 EP (power) "The exposed pad on the bottom of the SOIC package and the LFCSP package. EP enhances thermal performance and is electrically connected to GND inside the package. User is recommended to connect EP to the ground plane on the (See Datasheet)"

## ADP1706ARDZ-1.8-R7
designator U?
1 A, Low Dropout, CMOS Linear Regulator, 2.5 to 5.5 V Vin, 1.8 V Vout, Industrial, 8-pin SOIC (RD-8-2), Reel; Manufacturer: Analog Devices; PartNumber: ADP1706ARDZ-1.8-R7; DatasheetVersion: Rev. 0; PackageVersion: Jan-05; PackageReference: RD-8-2; PackageDescription: 8-Pin Standard Small Outline Package, Body 4.9 x 3.9 mm, Pitch 1.27 mm; Supplier 1: Digi-Key; Supplier Part Number 1: ADP1706ARDZ-1.8-R7TR-ND; Supplier 2: Digi-Key; Supplier Part Number 2: ADP1706ARDZ-1.8-R7CT-ND; Supplier 3: Digi-Key; Supplier Part Number 3: ADP1706ARDZ-1.8-R7DKR-ND; Supplier 4: Farnell; Supplier Part Number 4: 2312956; Supplier 5: Newark; Supplier Part Number 5: 67W3139; Supplier 6: Newark; Supplier Part Number 6: 71M1726; Supplier 7: Mouser; Supplier Part Number 7: 584-ADP1706ARDZ1.8R7; Packing: Reel; Mounting Technology: Surface Mount; Code_JEDEC: MS-012-AA; ComponentLink1Description: Manufacturer URL; ComponentLink1URL: http://www.analog.com/en/index.html; ComponentLink2Description: Datasheet; ComponentLink2URL: http://www.analog.com/static/imported-files/data_sheets/ADP1706_1707_1708.pdf; ComponentLink3Description: Package Specification; ComponentLink3URL: http://www.analog.com/static/imported-files/packages/62062404671038RD_8_2.pdf; ComponentLink4Description: URL Link1; ComponentLink4URL: Product URL:http://www.analog.com/en/ADP1706/productSearch.html
footprint ADI-RD-8-2_N (SOIC, 8-Leads, Body 4.9x3.9mm, Pitch 1.27mm, Thermal Pad 3.098x2.41mm, IPC Medium Density)
footprint ADI-RD-8-2_L (SOIC, 8-Leads, Body 4.9x3.9mm, Pitch 1.27mm, Thermal Pad 3.098x2.41mm, IPC High Density)
footprint ADI-RD-8-2_M (SOIC, 8-Leads, Body 4.9x3.9mm, Pitch 1.27mm, Thermal Pad 3.098x2.41mm, IPC Low Density)
pins: 1 EN (in) "Enable Input. Drive EN high to turn on the regulator; drive it low to turn off the regulator. For automatic startup, connect EN to IN.", 2 GND (power) "Ground.", 3 IN (power) "Regulator Input Supply. Bypass IN to GND with a 4.7 uF or greater capacitor", 4 IN (power) "Regulator Input Supply. Bypass IN to GND with a 4.7 uF or greater capacitor", 5 OUT (power) "Regulated Output Voltage. Bypass OUT to GND with a 4.7 uF or greater capacitor.", 6 OUT (power) "Regulated Output Voltage. Bypass OUT to GND with a 4.7 uF or greater capacitor.", 7 SENSE (in) "Sense. Measures the actual output voltage at the load and feeds it to the error amplifier. Connect SENSE as close as possible to the load to minimize the effect of IR drop between the regulator output and the load.", 8 SS (in) "Soft Start. A capacitor connected to this pin determines the soft start time.", 9 EP (power) "The exposed pad on the bottom of the SOIC package and the LFCSP package. EP enhances thermal performance and is electrically connected to GND inside the package. User is recommended to connect EP to the ground plane on the (See Datasheet)"

## ADP1706ARDZ-1.15R7
designator U?
1 A, Low Dropout, CMOS Linear Regulator, 2.5 to 5.5 V Vin, 1.15 V Vout, Industrial, 8-pin SOIC (RD-8-2), Reel; Manufacturer: Analog Devices; PartNumber: ADP1706ARDZ-1.15R7; DatasheetVersion: Rev. 0; PackageVersion: Jan-05; PackageReference: RD-8-2; PackageDescription: 8-Pin Standard Small Outline Package, Body 4.9 x 3.9 mm, Pitch 1.27 mm; Supplier 1: Digi-Key; Supplier Part Number 1: ADP1706ARDZ-1.15R7TR-ND; Supplier 2: Digi-Key; Supplier Part Number 2: ADP1706ARDZ-1.15R7CT-ND; Supplier 3: Digi-Key; Supplier Part Number 3: ADP1706ARDZ-1.15R7DKR-ND; Supplier 4: Mouser; Supplier Part Number 4: 584-AP1706ARDZ1.15R7; Packing: Reel; Mounting Technology: Surface Mount; Code_JEDEC: MS-012-AA; ComponentLink1Description: Manufacturer URL; ComponentLink1URL: http://www.analog.com/en/index.html; ComponentLink2Description: Datasheet; ComponentLink2URL: http://www.analog.com/static/imported-files/data_sheets/ADP1706_1707_1708.pdf; ComponentLink3Description: Package Specification; ComponentLink3URL: http://www.analog.com/static/imported-files/packages/62062404671038RD_8_2.pdf; ComponentLink4Description: URL Link1; ComponentLink4URL: Product URL:http://www.analog.com/en/ADP1706/productSearch.html
footprint ADI-RD-8-2_N (SOIC, 8-Leads, Body 4.9x3.9mm, Pitch 1.27mm, Thermal Pad 3.098x2.41mm, IPC Medium Density)
footprint ADI-RD-8-2_L (SOIC, 8-Leads, Body 4.9x3.9mm, Pitch 1.27mm, Thermal Pad 3.098x2.41mm, IPC High Density)
footprint ADI-RD-8-2_M (SOIC, 8-Leads, Body 4.9x3.9mm, Pitch 1.27mm, Thermal Pad 3.098x2.41mm, IPC Low Density)
pins: 1 EN (in) "Enable Input. Drive EN high to turn on the regulator; drive it low to turn off the regulator. For automatic startup, connect EN to IN.", 2 GND (power) "Ground.", 3 IN (power) "Regulator Input Supply. Bypass IN to GND with a 4.7 uF or greater capacitor", 4 IN (power) "Regulator Input Supply. Bypass IN to GND with a 4.7 uF or greater capacitor", 5 OUT (power) "Regulated Output Voltage. Bypass OUT to GND with a 4.7 uF or greater capacitor.", 6 OUT (power) "Regulated Output Voltage. Bypass OUT to GND with a 4.7 uF or greater capacitor.", 7 SENSE (in) "Sense. Measures the actual output voltage at the load and feeds it to the error amplifier. Connect SENSE as close as possible to the load to minimize the effect of IR drop between the regulator output and the load.", 8 SS (in) "Soft Start. A capacitor connected to this pin determines the soft start time.", 9 EP (power) "The exposed pad on the bottom of the SOIC package and the LFCSP package. EP enhances thermal performance and is electrically connected to GND inside the package. User is recommended to connect EP to the ground plane on the (See Datasheet)"

## ADP1706ARDZ-2.5-R7
designator U?
1 A, Low Dropout, CMOS Linear Regulator, 2.5 to 5.5 V Vin, 2.5 V Vout, Industrial, 8-pin SOIC (RD-8-2), Reel; Manufacturer: Analog Devices; PartNumber: ADP1706ARDZ-2.5-R7; DatasheetVersion: Rev. 0; PackageVersion: Jan-05; PackageReference: RD-8-2; PackageDescription: 8-Pin Standard Small Outline Package, Body 4.9 x 3.9 mm, Pitch 1.27 mm; Supplier 1: Digi-Key; Supplier Part Number 1: ADP1706ARDZ-2.5-R7TR-ND; Supplier 2: Digi-Key; Supplier Part Number 2: ADP1706ARDZ-2.5-R7CT-ND; Supplier 3: Digi-Key; Supplier Part Number 3: ADP1706ARDZ-2.5-R7DKR-ND; Supplier 4: Farnell; Supplier Part Number 4: 2312957; Supplier 5: Newark; Supplier Part Number 5: 67W3140; Supplier 6: Newark; Supplier Part Number 6: 71M1727; Supplier 7: Mouser; Supplier Part Number 7: 584-ADP1706ARDZ2.5R7; Packing: Reel; Mounting Technology: Surface Mount; Code_JEDEC: MS-012-AA; ComponentLink1Description: Manufacturer URL; ComponentLink1URL: http://www.analog.com/en/index.html; ComponentLink2Description: Datasheet; ComponentLink2URL: http://www.analog.com/static/imported-files/data_sheets/ADP1706_1707_1708.pdf; ComponentLink3Description: Package Specification; ComponentLink3URL: http://www.analog.com/static/imported-files/packages/62062404671038RD_8_2.pdf; ComponentLink4Description: URL Link1; ComponentLink4URL: Product URL:http://www.analog.com/en/ADP1706/productSearch.html
footprint ADI-RD-8-2_N (SOIC, 8-Leads, Body 4.9x3.9mm, Pitch 1.27mm, Thermal Pad 3.098x2.41mm, IPC Medium Density)
footprint ADI-RD-8-2_L (SOIC, 8-Leads, Body 4.9x3.9mm, Pitch 1.27mm, Thermal Pad 3.098x2.41mm, IPC High Density)
footprint ADI-RD-8-2_M (SOIC, 8-Leads, Body 4.9x3.9mm, Pitch 1.27mm, Thermal Pad 3.098x2.41mm, IPC Low Density)
pins: 1 EN (in) "Enable Input. Drive EN high to turn on the regulator; drive it low to turn off the regulator. For automatic startup, connect EN to IN.", 2 GND (power) "Ground.", 3 IN (power) "Regulator Input Supply. Bypass IN to GND with a 4.7 uF or greater capacitor", 4 IN (power) "Regulator Input Supply. Bypass IN to GND with a 4.7 uF or greater capacitor", 5 OUT (power) "Regulated Output Voltage. Bypass OUT to GND with a 4.7 uF or greater capacitor.", 6 OUT (power) "Regulated Output Voltage. Bypass OUT to GND with a 4.7 uF or greater capacitor.", 7 SENSE (in) "Sense. Measures the actual output voltage at the load and feeds it to the error amplifier. Connect SENSE as close as possible to the load to minimize the effect of IR drop between the regulator output and the load.", 8 SS (in) "Soft Start. A capacitor connected to this pin determines the soft start time.", 9 EP (power) "The exposed pad on the bottom of the SOIC package and the LFCSP package. EP enhances thermal performance and is electrically connected to GND inside the package. User is recommended to connect EP to the ground plane on the (See Datasheet)"